# EAGLE library part CONN2X10PRINT (library edgeConn2x10)
Footprint for 10/20 edge connector.
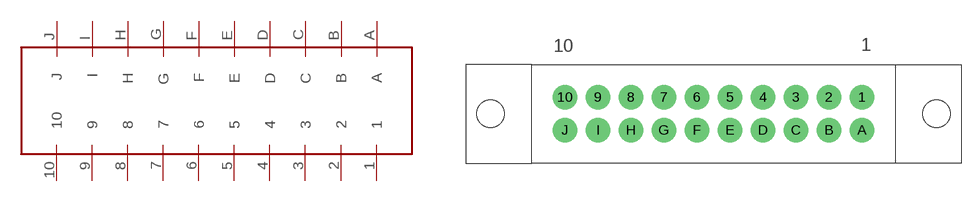
[diagram p1: symbol with the pads of CONN2X10PRINT; footprint CONN2X10PRINT]

Designator prefix -

## CONN2X10PRINT  [CONN2X10PRINT]
1  1
2  2
3  3
4  4
5  5
6  6
7  7
8  8
9  9
10  10
A  A
B  B
C  C
D  D
E  E
F  F
G  G
H  H
I  I
J  J

## Footprint CONN2X10PRINT (pad centres in mm)
Footprint for 10/20 edge connector.
drill 1.981: 1 17.831,1.981; 2 13.868,1.981; 3 9.906,1.981; 4 5.944,1.981; 5 1.981,1.981; 6 -1.981,1.981; 7 -5.944,1.981; 8 -9.906,1.981; 9 -13.868,1.981; 10 -17.831,1.981; A 17.831,-1.981; B 13.868,-1.981; C 9.906,-1.981; D 5.944,-1.981; E 1.981,-1.981; F -1.981,-1.981; G -5.944,-1.981; H -9.906,-1.981; I -13.868,-1.981; J -17.831,-1.981
hole 3.302 at -26.746,0
hole 3.302 at 26.746,0